# EAGLE library part W65C51 (library crasbe)
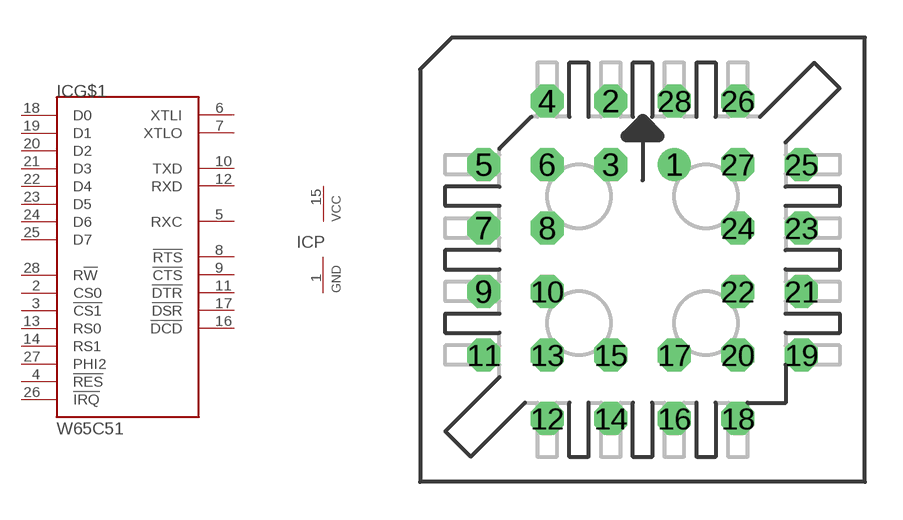
[diagram p34: symbol with the pads of PLCC-S28; footprint PLCC-S28]

Designator prefix IC; gates G$1=65C51 P=VCC1GND1

## W65C51N6TPLG-14  [PLCC-S28]
1  P:GND  pwr
2  G$1:CS0  in
3  G$1:!CS1  in
4  G$1:!RES  in
5  G$1:RXC
6  G$1:XTLI  in
7  G$1:XTLO  out
8  G$1:!RTS  out
9  G$1:!CTS  in
10  G$1:TXD  out
11  G$1:!DTR  out
12  G$1:RXD  in
13  G$1:RS0  in
14  G$1:RS1  in
15  P:VCC  pwr
16  G$1:!DCD  in
17  G$1:!DSR  in
18  G$1:D0
19  G$1:D1
20  G$1:D2
21  G$1:D3
22  G$1:D4
23  G$1:D5
24  G$1:D6
25  G$1:D7
26  G$1:!IRQ  out
27  G$1:PHI2  in
28  G$1:R!W  in

## Footprint PLCC-S28 (pad centres in mm)
drill 0.813: 1 1.27,3.81
drill 0.813 octagon: 2 -1.27,6.35; 3 -1.27,3.81; 4 -3.81,6.35; 5 -6.35,3.81; 6 -3.81,3.81; 7 -6.35,1.27; 8 -3.81,1.27; 9 -6.35,-1.27; 10 -3.81,-1.27; 11 -6.35,-3.81; 12 -3.81,-6.35; 13 -3.81,-3.81; 14 -1.27,-6.35; 15 -1.27,-3.81; 16 1.27,-6.35; 17 1.27,-3.81; 18 3.81,-6.35; 19 6.35,-3.81; 20 3.81,-3.81; 21 6.35,-1.27; 22 3.81,-1.27; 23 6.35,1.27; 24 3.81,1.27; 25 6.35,3.81; 26 3.81,6.35; 27 3.81,3.81; 28 1.27,6.35